# EAGLE library part MSL0104RGB (library MSL0104RGB)
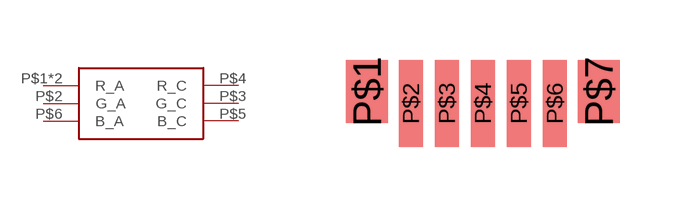
[diagram p0: symbol with the pads of MSL0104RGB; footprint MSL0104RGB]

Designator prefix -

## MSL0104RGB  [MSL0104RGB]
P$1  R_A
P$2  G_A
P$3  G_C
P$4  R_C
P$5  B_C
P$6  B_A
P$7  R_A

## Footprint MSL0104RGB (pad centres in mm)
smd 1.06 x 1.58: P$1 -6.18,0.046; P$7 -0.38,0.046
smd 0.6 x 2.18: P$2 -5.08,-0.254; P$3 -4.18,-0.254; P$4 -3.28,-0.254; P$5 -2.38,-0.254; P$6 -1.48,-0.254